# Altium schematic symbol library BL4054B.SchLib: 1 symbol
Pins are listed as number, name and electrical type; pins without a type are passive.

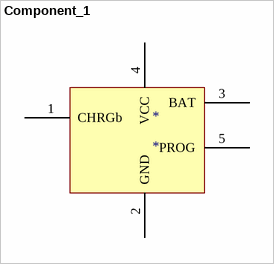
[diagram p0: symbol Component_1]

## Component_1
designator *
pins: 1 CHRGb, 2 GND, 3 BAT, 4 VCC, 5 PROG